# EAGLE library part IXDN502 (library RoboJackets-PowerICs)
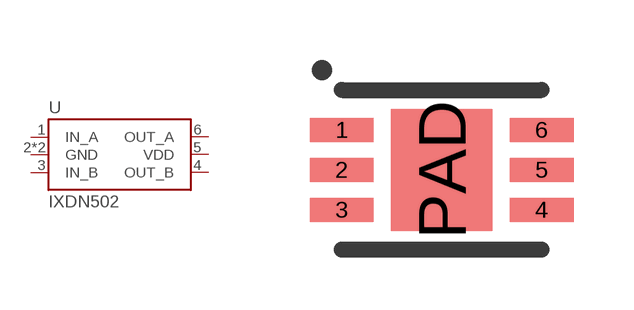
[diagram p7: symbol with the pads of DFN-6_4X5MM; footprint DFN-6_4X5MM]

Designator prefix U

## IXDN502D1  [DFN-6_4X5MM]
1  IN_A
2  GND
3  IN_B
4  OUT_B
5  VDD
6  OUT_A
PAD  GND

## Footprint DFN-6_4X5MM (pad centres in mm)
smd 1.6 x 0.6: 1 -2.5,1; 2 -2.5,0; 3 -2.5,-1; 4 2.5,-1; 5 2.5,0; 6 2.5,1
smd 2.54 x 3.05: PAD 0,0